# EAGLE library part ESP32-S3-WROOM-1 (library Module)
ESP32-S3-WROOM-1 WiFi Module
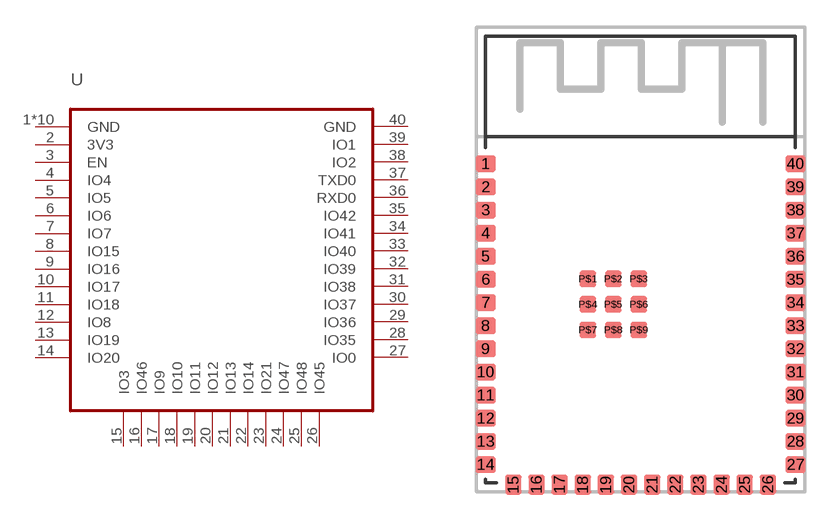
[diagram p18: symbol with the pads of ESP32-S3-WROOM-1; footprint ESP32-S3-WROOM-1]

Designator prefix U

## ESP32-S3-WROOM-1 (MPN: ESP32-S3-WROOM-1-N8R8)  [ESP32-S3-WROOM-1]
1  GND
2  3V3
3  EN
4  IO4
5  IO5
6  IO6
7  IO7
8  IO15
9  IO16
10  IO17
11  IO18
12  IO8
13  IO19
14  IO20
15  IO3
16  IO46
17  IO9
18  IO10
19  IO11
20  IO12
21  IO13
22  IO14
23  IO21
24  IO47
25  IO48
26  IO45
27  IO0
28  IO35
29  IO36
30  IO37
31  IO38
32  IO39
33  IO40
34  IO41
35  IO42
36  RXD0
37  TXD0
38  IO2
39  IO1
40  GND
P$1  GND
P$2  GND
P$3  GND
P$4  GND
P$5  GND
P$6  GND
P$7  GND
P$8  GND
P$9  GND

## Footprint ESP32-S3-WROOM-1 (pad centres in mm)
ESP32-S3-WROOM-1 WiFi Module.
smd 1.1 x 0.9: 1 -8.5,10.01; 2 -8.5,8.74; 3 -8.5,7.47; 4 -8.5,6.2; 5 -8.5,4.93; 6 -8.5,3.66; 7 -8.5,2.39; 8 -8.5,1.12; 9 -8.5,-0.15; 10 -8.5,-1.42; 11 -8.5,-2.69; 12 -8.5,-3.96; 13 -8.5,-5.23; 14 -8.5,-6.5; 27 8.5,-6.5; 28 8.5,-5.23; 29 8.5,-3.96; 30 8.5,-2.69; 31 8.5,-1.42; 32 8.5,-0.15; 33 8.5,1.12; 34 8.5,2.39; 35 8.5,3.66; 36 8.5,4.93; 37 8.5,6.2; 38 8.5,7.47; 39 8.5,8.74; 40 8.5,10.01
smd 0.9 x 1.1: 15 -6.985,-7.6; 16 -5.715,-7.6; 17 -4.445,-7.6; 18 -3.175,-7.6; 19 -1.905,-7.6; 20 -0.635,-7.6; 21 0.635,-7.6; 22 1.905,-7.6; 23 3.175,-7.6; 24 4.445,-7.6; 25 5.715,-7.6; 26 6.985,-7.6
smd 0.9 x 0.9: P$1 -2.9,3.69; P$2 -1.5,3.69; P$3 -0.1,3.69; P$4 -2.9,2.29; P$5 -1.5,2.29; P$6 -0.1,2.29; P$7 -2.9,0.89; P$8 -1.5,0.89; P$9 -0.1,0.89